# Altium schematic symbol library RCJ-017.SchLib: 1 symbol
Pins are listed as number, name and electrical type; pins without a type are passive.

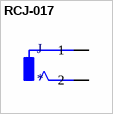
[diagram p0: symbol RCJ-017]

## RCJ-017
designator J
1 Port,  Right Angle, Through Hole, Shielded, RCA Jack Connector; MP: RCJ-017; MF: CUI Devices; SnapEDA_Link: https://www.snapeda.com/parts/RCJ-017/CUI%20Devices/view-part/581890/?ref=snap; Price: None; CUI_purchase_URL: https://www.cuidevices.com/product/interconnect/connectors/rca-connectors/rcj-01-series?utm_source=snapeda.com&utm_medium=referral&utm_campaign=snapedaBOM; Value: *; Availability: Unavailable; Package: None
footprint CUI_RCJ-017
pins: 1A 1, 1B 1, 1C 1, 2